# Altium schematic symbol library Altium_RJ_LAN.SchLib: 1 symbol
Pins are listed as number, name and electrical type; pins without a type are passive.

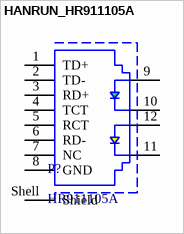
[diagram p0: symbol HANRUN_HR911105A]

## HANRUN_HR911105A
designator P?, comment HR911105A
Single Port RJ45 Connector with Integrated Magnetics and LED; Manufacturer Part Number: N/A; Manufacture SN: N/A; Mounting Technology: THT; Operating Temperature: -55 to +125degC; Packaging: N/A; Supplier 1: Mouser; Supplier 1 Part Number: N/A; Supplier 1 URL: N/A; Supplier 2: Digi-Key; Supplier 2 Part Number: N/A; Supplier 2 URL: N/A; Supplier 3: thegioiic; Supplier 3 Part Number: HR911105A; Supplier 3 URL: https://www.thegioiic.com/hr911105a-cong-rj45-cai-co-led-hanrun; Value: HR911105A; ComponentLink1Description: Datasheet; ComponentLink1URL: https://tme.vn/upload/pdf/HR911105A.pdf
footprint HANRUN_HR911105A
pins: 1 TD+, 2 TD-, 3 RD+, 4 TCT, 5 RCT, 6 RD-, 7 NC, 8 GND, 9, 10, 11, 12, Shell Shield